# Altium integrated library TMS320F28027PTT (1).IntLib: 1 symbol
Pins are listed as number, name and electrical type; pins without a type are passive.

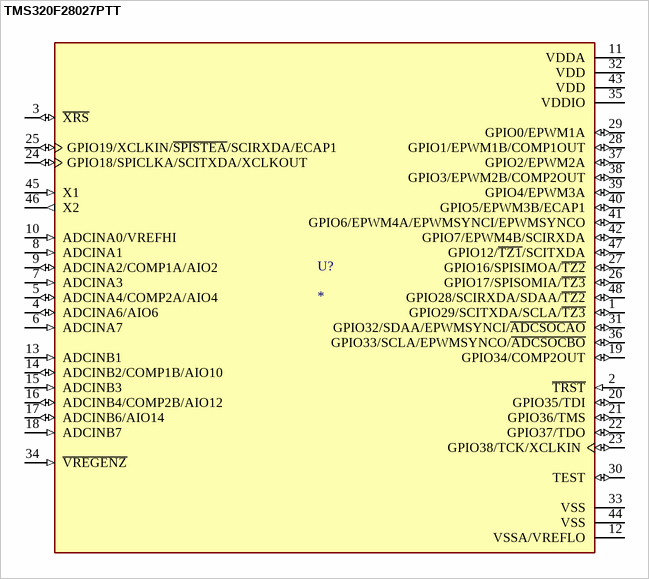
[diagram p0: symbol TMS320F28027PTT]

## TMS320F28027PTT
designator U?
C2000â„¢ 32-bit MCU with 60 MHz, 64 KB flash; MF: Texas Instruments; MP: TMS320F28027PTT; SnapEDA_Link: https://www.snapeda.com/parts/TMS320F28027PTT/Texas+Instruments/view-part/?ref=snap; Package: LQFP-48 Texas Instruments; Value: *; Check_prices: https://www.snapeda.com/parts/TMS320F28027PTT/Texas+Instruments/view-part/?ref=eda
footprint QFP50P900X900X160-48N
pins: 1 GPIO29/SCITXDA/SCLA/~{TZ3} (io), 2 ~{TRST} (in), 3 ~{XRS} (io), 4 ADCINA6/AIO6 (io), 5 ADCINA4/COMP2A/AIO4 (io), 6 ADCINA7 (in), 7 ADCINA3 (in), 8 ADCINA1 (in), 9 ADCINA2/COMP1A/AIO2 (io), 10 ADCINA0/VREFHI (in), 11 VDDA (power), 12 VSSA/VREFLO (power), 13 ADCINB1 (in), 14 ADCINB2/COMP1B/AIO10 (io), 15 ADCINB3 (in), 16 ADCINB4/COMP2B/AIO12 (io), 17 ADCINB6/AIO14 (io), 18 ADCINB7 (in), 19 GPIO34/COMP2OUT (io), 20 GPIO35/TDI (io), 21 GPIO36/TMS (io), 22 GPIO37/TDO (io), 23 GPIO38/TCK/XCLKIN (io), 24 GPIO18/SPICLKA/SCITXDA/XCLKOUT (io), 25 GPIO19/XCLKIN/~{SPISTEA}/SCIRXDA/ECAP1 (io), 26 GPIO17/SPISOMIA/~{TZ3} (io), 27 GPIO16/SPISIMOA/~{TZ2} (io), 28 GPIO1/EPWM1B/COMP1OUT (io), 29 GPIO0/EPWM1A (io), 30 TEST (io), 31 GPIO32/SDAA/EPWMSYNCI/~{ADCSOCAO} (io), 32 VDD (power), 33 VSS (power), 34 ~{VREGENZ} (in), 35 VDDIO (power), 36 GPIO33/SCLA/EPWMSYNCO/~{ADCSOCBO} (io), 37 GPIO2/EPWM2A (io), 38 GPIO3/EPWM2B/COMP2OUT (io), 39 GPIO4/EPWM3A (io), 40 GPIO5/EPWM3B/ECAP1 (io), 41 GPIO6/EPWM4A/EPWMSYNCI/EPWMSYNCO (io), 42 GPIO7/EPWM4B/SCIRXDA (io), 43 VDD (power), 44 VSS (power), 45 X1 (in), 46 X2 (out), 47 GPIO12/~{TZ1}/SCITXDA (io), 48 GPIO28/SCIRXDA/SDAA/~{TZ2} (io)